# Altium schematic symbol library SX1281IMLTRT.SchLib: 1 symbol
Pins are listed as number, name and electrical type; pins without a type are passive.

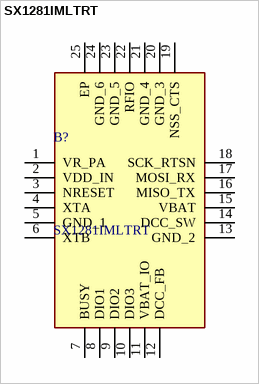
[diagram p0: symbol SX1281IMLTRT]

## SX1281IMLTRT
designator B?
RF Transceiver PreProduction Sample Wireless Transceiver; Manufacturer_Name: SEMTECH; Geometry.Height: 1mm; Mouser Part Number: 947-SX1281IMLTRT; Mouser Price/Stock: https://www.mouser.co.uk/ProductDetail/Semtech/SX1281IMLTRT?qs=5aG0NVq1C4xR1aFoShVcjg%3D%3D; Manufacturer_Part_Number: SX1281IMLTRT; Datasheet Link: https://www.arrow.com/en/products/sx1281imltrt/semtech
footprint QFN50P400X400X100-25N-D
pins: 1 VR_PA, 2 VDD_IN, 3 NRESET, 4 XTA, 5 GND_1, 6 XTB, 7 BUSY, 8 DIO1, 9 DIO2, 10 DIO3, 11 VBAT_IO, 12 DCC_FB, 13 GND_2, 14 DCC_SW, 15 VBAT, 16 MISO_TX, 17 MOSI_RX, 18 SCK_RTSN, 19 NSS_CTS, 20 GND_3, 21 GND_4, 22 RFIO, 23 GND_5, 24 GND_6, 25 EP